# EAGLE library part PE44121 (library con-coax)
SMB JACK RIGHT ANGLE SURFACE MOUNT Source: http://www.pasternack.com/Pdf/PE44121.pdf
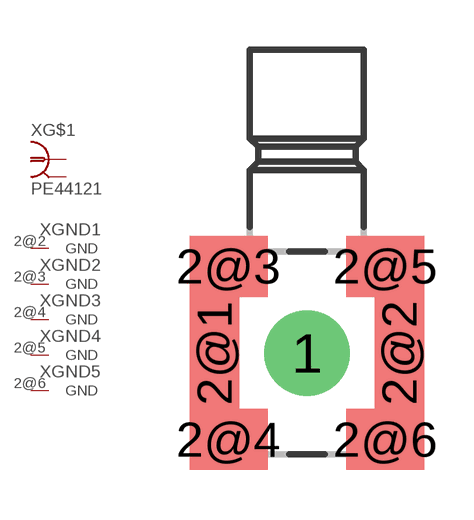
[diagram p1: symbol with the pads of PE44121; footprint PE44121]

Designator prefix X; gates G$1=BU-BNC GND1=PIN_GND GND2=PIN_GND GND3=PIN_GND GND4=PIN_GND GND5=PIN_GND

## PE44121  [PE44121]
1  G$1:1  pas
2@1  G$1:GND  pwr
2@2  GND1:GND  pwr
2@3  GND2:GND  pwr
2@4  GND3:GND  pwr
2@5  GND4:GND  pwr
2@6  GND5:GND  pwr

## Footprint PE44121 (pad centres in mm)
SMB JACK RIGHT ANGLE SURFACE MOUNT Source: http://www.pasternack.com/Pdf/PE44121.pdf
drill 1.727 pad 2.184 round: 1 0,0
smd 1.5 x 7.1: 2@1 -2.8,0; 2@2 2.8,0
smd 2.362 x 1.85: 2@3 -2.375,2.625; 2@4 -2.375,-2.625; 2@5 2.375,2.625; 2@6 2.375,-2.625